# Altium footprint library DIODE.PcbLib: 6 footprints
Each footprint in its own frame and in the unit in brackets; x right, y up, seen from the top. Pads: shape width x height; smd on the part's side, far side on the other; paste and mask are expansions set on the pad; w line width, h text height; cw(c..) or ccw(c..) is an arc to the next point about the centre after c.
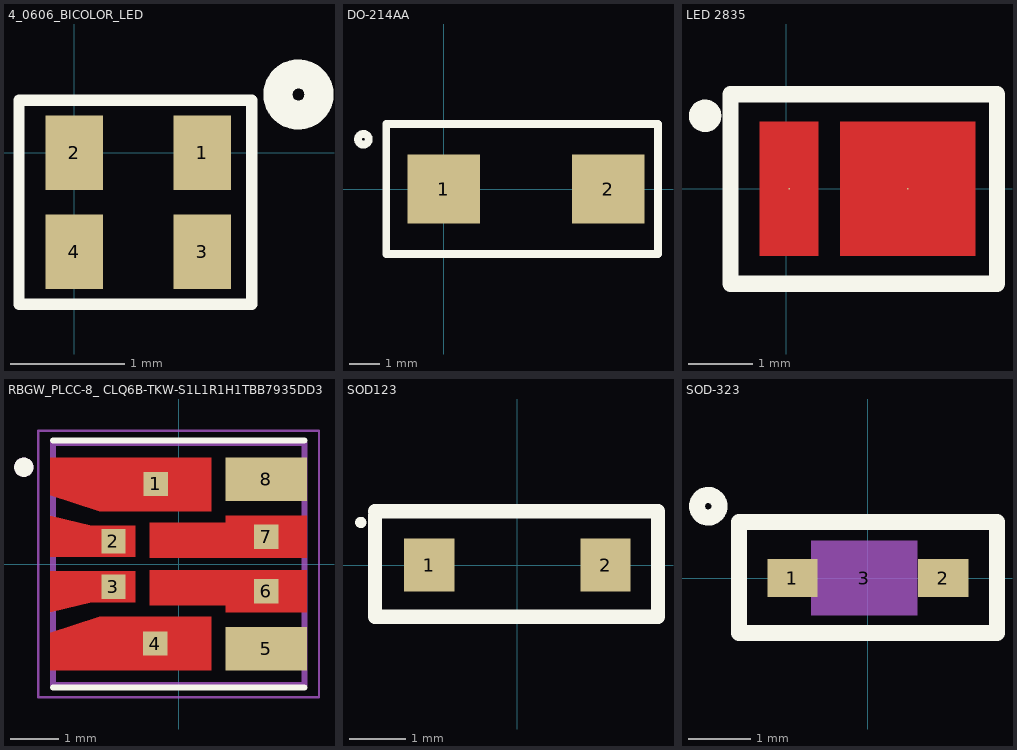
[diagram p0: the footprints below, top view; thin cyan lines are the x and y axes]

## 4_0606_BICOLOR_LED [mm]
pads (4):
  rect 0.5x0.65 smd: 1(1.118,0) 2(0,0) 3(1.118,-0.864) 4(0,-0.864)
Top Overlay:
  circle w0.254: c1.956,0.508 r0.18
  lines w0.1: -0.483,-1.321 1.549,-1.321 1.549,0.457 -0.483,0.457 -0.483,-1.321
3D body "IN-S66DAT5R5B.stp": height 0.65, standoff 0, extent -0.241,-1.182 1.359,0.318

## DO-214AA [mm] "1SMB5931H"
pads (2):
  rect 2.4x2.3 smd: 1(0,0) 2(5.461,0)
Top Overlay:
  circle w0.254: c-2.667,1.651 r0.18
  lines w0.254: -1.905,-2.159 -1.905,2.159 7.112,2.159 7.112,-2.159 -1.905,-2.159
3D body "1SMB5931H.STEP": height 2.65, standoff 0, extent 0.251,-1.813 5.591,1.813

## LED 2835 [mil] "GW JTLMS 1 GWH4 XX51 1"
pads (2):
  round 1 smd: 1(1.81,0) 2(75,0)
Top Layer:
  region: 116.73,41.34 33.27,41.34 33.27,-41.34 116.73,-41.34
  region: 19.92,41.34 -16.3,41.34 -16.3,-41.34 19.92,-41.34
Top Overlay:
  circle w10: c-50,45 r5
  lines w10: -34.35,-58.57 130,-58.57 130,58.33 -34.35,58.33 -34.35,-58.57
3D body "GW_JTLMS1.EM-GWH4-XX51-1.stp": height 27.56, standoff 0, extent -20.36,-56.1 118.9,56.1

## RBGW_PLCC-8_ CLQ6B-TKW-S1L1R1H1TBB7935DD3 [mm] "RGBW, If 100 mA, Vf 2.1V - 3.1V, 1.1mm/5mm"
pads (8):
  rect 0.5x0.5 smd: 1(-0.475,1.655) 3(-1.35,-0.47) 4(-0.485,-1.645) 6(1.81,-0.565)
  rect 0.5x0.5 smd paste-1 mask+0: 2(-1.35,0.47) 7(1.81,0.565)
  rect 1.68x0.9 smd: 5(1.81,-1.75) 8(1.81,1.75)
Top Layer:
  region: 2.65,-1 0.97,-1 0.97,-0.85 -0.6,-0.85 -0.6,-0.13 2.65,-0.13
  region: -0.9,-0.79 -1.8,-0.79 -2.65,-1 -2.65,-0.15 -0.9,-0.15
  region: 0.67,-2.2 -2.65,-2.2 -2.65,-1.42 -1.64,-1.09 0.67,-1.09
  region: 2.65,0.13 -0.6,0.13 -0.6,0.85 0.97,0.85 0.97,1 2.65,1
  region: -1.8,0.79 -0.9,0.79 -0.9,0.15 -2.65,0.15 -2.65,1
  region: 0.67,1.09 -1.64,1.09 -2.65,1.42 -2.65,2.2 0.67,2.2
Top Overlay:
  circle w0.2: c-3.2,2 r0.1
  lines w0.127: -2.6,-2.55 2.6,-2.55 ; -2.6,2.55 2.6,2.55
Top Paste:
  region: -0.9,-0.79 -1.8,-0.79 -2.65,-1 -2.65,-0.15 -0.9,-0.15
  region: 2.65,-1 0.97,-1 0.97,-0.85 -0.6,-0.85 -0.6,-0.13 2.65,-0.13
  region: 0.67,-2.2 -2.65,-2.2 -2.65,-1.42 -1.64,-1.09 0.67,-1.09
  region: 2.65,0.13 -0.6,0.13 -0.6,0.85 0.97,0.85 0.97,1 2.65,1
  region: -1.8,0.79 -0.9,0.79 -0.9,0.15 -2.65,0.15 -2.65,1
  region: 0.67,1.09 -1.64,1.09 -2.65,1.42 -2.65,2.2 0.67,2.2
Top Solder:
  region: 2.75,-1.1 0.87,-1.1 0.87,-0.95 -0.7,-0.95 -0.7,-0.03 2.75,-0.03
  region: 2.75,0.03 -0.7,0.03 -0.7,0.95 0.87,0.95 0.87,1.1 2.75,1.1
  region: -1.9,0.89 -0.8,0.89 -0.8,0.05 -2.75,0.05 -2.75,1.12
  region: 0.77,0.99 -1.74,0.99 -2.75,1.32 -2.75,2.3 0.77,2.3
  region: -0.8,-0.89 -1.9,-0.89 -2.75,-1.12 -2.75,-0.05 -0.8,-0.05
  region: 0.77,-2.3 -2.75,-2.3 -2.75,-1.32 -1.74,-0.99 0.77,-0.99
Mechanical 13:
  circle w0.2: c-3.2,2 r0.1
  lines w0.127: -2.6,-2.5 -2.6,2.5 2.6,2.5 2.6,-2.5 -2.6,-2.5
Mechanical 15:
  lines w0.05: -2.9,-2.75 -2.9,2.75 2.9,2.75 2.9,-2.75 -2.9,-2.75
3D body "step_temp.STEP": height 1.2, standoff 0, extent -2.6,-2.5 2.6,2.5

## SOD123 [mm] "1N4148W"
pads (2):
  rect 0.9x0.95 smd: 1(-1.575,0) 2(1.575,0)
Top Overlay:
  circle w0.1: c-2.794,0.762 r0.05
  lines w0.254: -2.54,0.889 -2.54,-0.922 2.512,-0.922 2.512,0.962 -2.54,0.962
3D body "1N4148W-TP.STEP": height 1.45, standoff -0.08, extent -1.825,-0.775 1.825,0.775

## SOD-323 [mm] "2"
pads (3):
  rect 0.8x0.6 smd: 1(-1.2,0) 2(1.2,0)
  rect 1.7x1.2 on Mech1: 3(-0.057,0)
Top Overlay:
  circle w0.254: c-2.54,1.143 r0.18
  lines w0.254: -2.054,-0.876 -2.054,0.889 2.057,0.889 2.057,-0.876 -2.054,-0.876
3D body "MM3Z6V2ST1G.STEP": height 1, standoff 0, extent -1.307,-0.619 1.193,0.619